# EAGLE library part ATMEGA328P-PU (library Microcontroller)
IC MCU 8BIT 32KB FLASH 28DIP Manufacturer's datasheet <http://ww1.microchip.com/downloads/en/DeviceDoc/ATmega48A-PA-88A-PA-168A-PA-328-P-DS-DS40002061A.pdf>
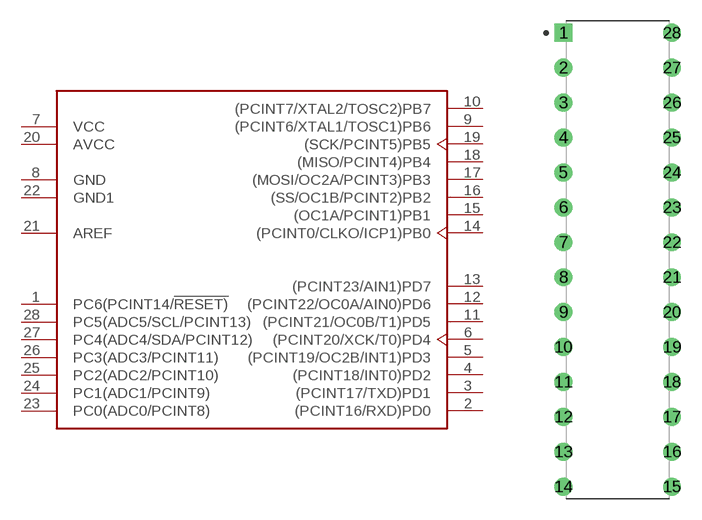
[diagram p3: symbol with the pads of DIP-28; footprint DIP-28]

Designator prefix U

## ATMEGA328P-PU (CREATED_BY: PCBLayout.com; DIGIKEY_PART_NUMBER: ATMEGA328P-PU-ND; MANUFACTURER: Microchip Technology; MPN: ATMEGA328P-PU; PACKAGE: DIP-28)  [DIP-28]
1  PC6(PCINT14/!RESET)
2  (PCINT16/RXD)PD0
3  (PCINT17/TXD)PD1
4  (PCINT18/INT0)PD2
5  (PCINT19/OC2B/INT1)PD3
6  (PCINT20/XCK/T0)PD4
7  VCC  pwr
8  GND  pwr
9  (PCINT6/XTAL1/TOSC1)PB6
10  (PCINT7/XTAL2/TOSC2)PB7
11  (PCINT21/OC0B/T1)PD5
12  (PCINT22/OC0A/AIN0)PD6
13  (PCINT23/AIN1)PD7
14  (PCINT0/CLKO/ICP1)PB0
15  (OC1A/PCINT1)PB1
16  (SS/OC1B/PCINT2)PB2
17  (MOSI/OC2A/PCINT3)PB3
18  (MISO/PCINT4)PB4
19  (SCK/PCINT5)PB5
20  AVCC  pwr
21  AREF  in
22  GND1  pwr
23  PC0(ADC0/PCINT8)
24  PC1(ADC1/PCINT9)
25  PC2(ADC2/PCINT10)
26  PC3(ADC3/PCINT11)
27  PC4(ADC4/SDA/PCINT12)
28  PC5(ADC5/SCL/PCINT13)

## Footprint DIP-28 (pad centres in mm)
drill 0.79 pad 1.19 square: 1 -3.95,16.51
drill 0.79 pad 1.19: 2 -3.95,13.97; 3 -3.95,11.43; 4 -3.95,8.89; 5 -3.95,6.35; 6 -3.95,3.81; 7 -3.95,1.27; 8 -3.95,-1.27; 9 -3.95,-3.81; 10 -3.95,-6.35; 11 -3.95,-8.89; 12 -3.95,-11.43; 13 -3.95,-13.97; 14 -3.95,-16.51; 15 3.95,-16.51; 16 3.95,-13.97; 17 3.95,-11.43; 18 3.95,-8.89; 19 3.95,-6.35; 20 3.95,-3.81; 21 3.95,-1.27; 22 3.95,1.27; 23 3.95,3.81; 24 3.95,6.35; 25 3.95,8.89; 26 3.95,11.43; 27 3.95,13.97; 28 3.95,16.51